# Altium schematic symbol library ISO-USBtoJTAG.SchLib: 1 symbol
Pins are listed as number, name and electrical type; pins without a type are passive.

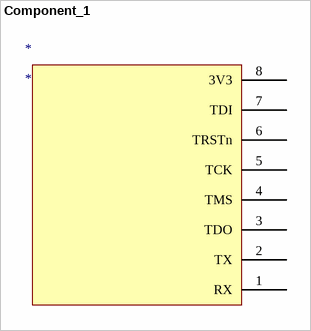
[diagram p0: symbol Component_1]

## Component_1
designator *
pins: 1 RX, 2 TX, 3 TDO, 4 TMS, 5 TCK, 6 TRSTn, 7 TDI, 8 3V3